# EAGLE library part 7508171310 (library wurth_electronics_midcom_inc_v2-1)
Package Style: EPW15S Mounting: SMD Pins: 9 pins Bobbin: 070-6384 Best pinouts for production vary per application. Please contact Wurth Electronics Midcom, Inc. for assistance with your custom design. Website: Wurth Electronics Midcom <http://www.we-online.com/midcom> Contact us Wurth Electronics Midcom, Inc. 121 Airport Dr. Watertown, SD 57201 Phone: (605) 886-4385 Fax: (605) 886-4486 E-Mail: midcom@we-online.com
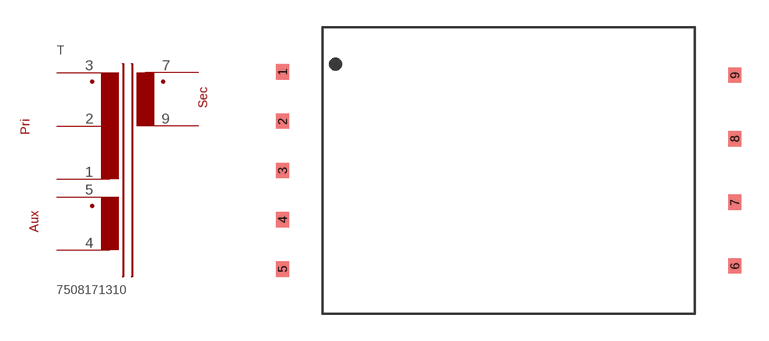
[diagram p28: symbol with the pads of EPW15S_SMD_H_9PIN_(6384); footprint EPW15S_SMD_H_9PIN_(6384)]

Designator prefix T

## 7508171310  [EPW15S_SMD_H_9PIN_(6384)]
1  1  pas
2  2  pas
3  3  pas
4  4  pas
5  5  pas
7  7  pas
9  9  pas

## Footprint EPW15S_SMD_H_9PIN_(6384) (pad centres in mm)
Package Style: EPW15S Mounting: SMD Pins: 9 Bobbin: 070-6384
smd 0.711 x 0.838: 1 -12.459,5.436; 2 -12.459,2.718; 3 -12.459,0; 4 -12.459,-2.718; 5 -12.459,-5.436; 6 12.459,-5.258; 7 12.459,-1.753; 8 12.459,1.753; 9 12.459,5.258